# EAGLE library part LTC4060FE (library linear-technology)
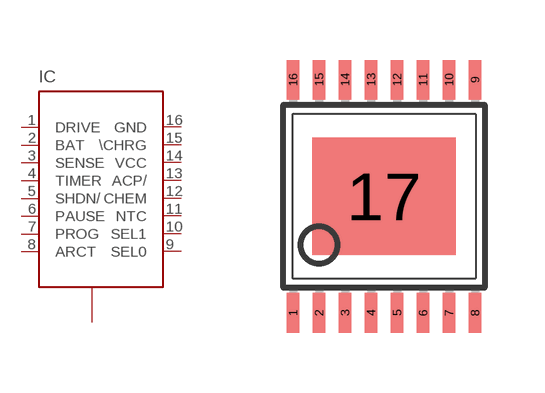
[diagram p51: symbol with the pads of TSSOP16-PAD; footprint TSSOP16-PAD]

Designator prefix IC

## LTC4060FEFE  [TSSOP16-PAD]
1  DRIVE
2  BAT  pas
3  SENSE
4  TIMER  pas
5  SHDN/
6  PAUSE
7  PROG  pas
8  ARCT
9  SEL0
10  SEL1
11  NTC
12  CHEM
13  ACP/
14  VCC  pwr
15  \CHRG  oc
16  GND  pwr
17  PAD  pwr

## Footprint TSSOP16-PAD (pad centres in mm)
smd 0.305 x 0.991: 1 -2.275,-2.918; 2 -1.625,-2.918; 3 -0.975,-2.918; 4 -0.325,-2.918; 5 0.325,-2.918; 6 0.975,-2.918; 7 1.625,-2.918; 8 2.275,-2.918; 9 2.275,2.918; 10 1.625,2.918; 11 0.975,2.918; 12 0.325,2.918; 13 -0.325,2.918; 14 -0.975,2.918; 15 -1.625,2.918; 16 -2.275,2.918
smd 3.58 x 2.94: 17 0,0